# Altium schematic symbol library PPTC021LFBN-RC.SchLib: 2 symbols
Pins are listed as number, name and electrical type; pins without a type are passive.

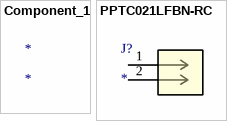
[diagram p0: symbols Component_1 to PPTC021LFBN-RC]

## Component_1
designator *

## PPTC021LFBN-RC
designator J?
No Description Available; Mfr_Name: Sullins; RefDes: RefDes; Type: Type
footprint CONN2_LFBN-RC_SUL
pins: 1, 2